# Altium schematic symbol library Capacitors MLCC.SchLib: 29 symbols
Pins are listed as number, name and electrical type; pins without a type are passive.

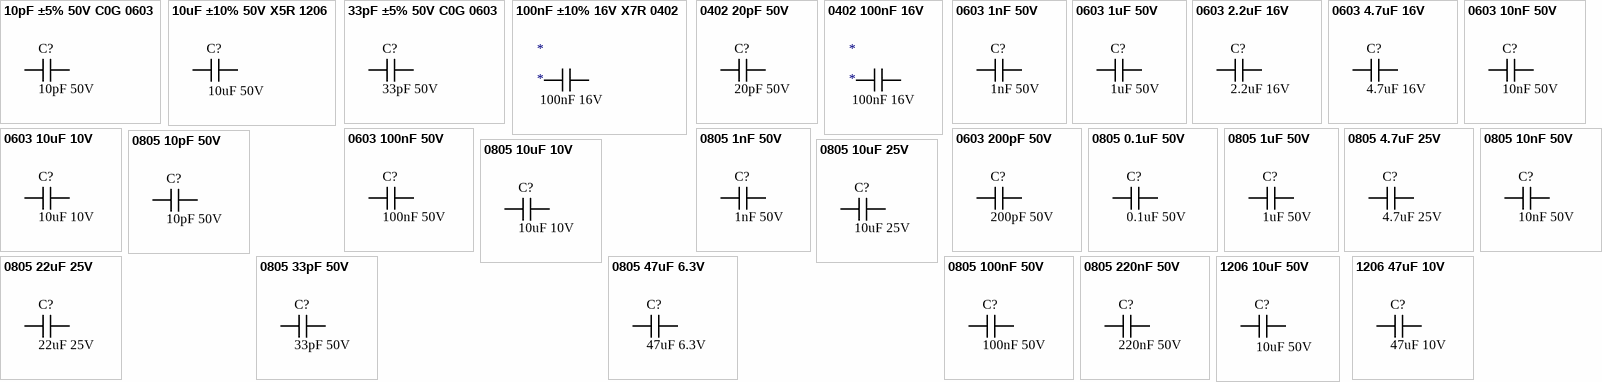
[diagram p0: symbols 10pF ±5% 50V C0G 0603 to 1206 47uF 10V]

## 10pF ±5% 50V C0G 0603
designator C?, comment value 10pF 50V  (hidden comment: Capacitor)
C0G ±5% 10pF 50V 0603 Multilayer Ceramic Capacitors MLCC - SMD/SMT ROHS; LCSC Part #: C1634
footprint CAP 0603_1608 (Chip Capacitor, 2-Leads, Body 1.60x0.80mm, IPC Medium Density)
pins: 1, 2

## 10uF ±10% 50V X5R 1206
designator C?, comment value 10uF 50V  (hidden comment: Capacitor)
10uF ±10% 50V X5R 1206 Multilayer Ceramic Capacitors MLCC - SMD/SMT ROHS; ComponentLink1Description: LCSC - Samsung Electro-Mechanics CL31A106KBHNNNE; ComponentLink1URL: https://lcsc.com/product-detail/Multilayer-Ceramic-Capacitors-MLCC-SMD-SMT_Samsung-Electro-Mechanics-CL31A106KBHNNNE_C13585.html; JLCPCB Part Type: Basic; LCSC Part #: C13585
footprint CAP 1206_3216 - 1.2MM (Chip Capacitor, 2-Leads, Body 3.25x1.60mm, IPC Medium Density)
pins: 1, 2

## 33pF ±5% 50V C0G 0603
designator C?, comment value 33pF 50V  (hidden comment: Capacitor)
C0G 33pF ±5% 50V 0603 Multilayer Ceramic Capacitors MLCC - SMD/SMT ROHS; LCSC Part #: C1663
footprint CAP 0603_1608 (Chip Capacitor, 2-Leads, Body 1.60x0.80mm, IPC Medium Density)
pins: 1, 2

## 100nF ±10% 16V X7R 0402
designator *  value 100nF 16V
100nF ±10% 16V X7R 0402 Multilayer Ceramic Capacitors MLCC - SMD/SMT RoHS; LCSC Part #: C1525
footprint CAP 0402_1005 (Chip Capacitor, 2-Leads, Body 1.02x0.51mm, IPC Medium Density)
pins: 1, 2

## 0402 20pF 50V
designator C?, comment value 20pF 50V  (hidden comment: Capacitor)
C0G 20pF ±5% 50V 0402 Multilayer Ceramic Capacitors MLCC - SMD/SMT ROHS; LCSC Part #: C1554
footprint CAP 0402_1005 RF (Chip Capacitor, 2-Leads, Body 1.02x0.51mm, IPC High Density)
pins: 1, 2

## 0402 100nF 16V
designator *  value 100nF 16V
100nF ±10% 16V X7R 0402 Multilayer Ceramic Capacitors MLCC - SMD/SMT RoHS; LCSC Part #: C1525
footprint CAP 0402_1005 (Chip Capacitor, 2-Leads, Body 1.02x0.51mm, IPC Medium Density)
pins: 1, 2

## 0603 1nF 50V
designator C?, comment value 1nF 50V  (hidden comment: Capacitor)
1nF ±10% 50V X7R 0603 Multilayer Ceramic Capacitors MLCC - SMD/SMT RoHS; LCSC Part #: C1588
footprint CAP 0603_1608 (Chip Capacitor, 2-Leads, Body 1.60x0.80mm, IPC Medium Density)
pins: 1, 2

## 0603 1uF 50V
designator C?, comment value 1uF 50V  (hidden comment: Capacitor)
1uF ±10% 50V X5R 0603 Multilayer Ceramic Capacitors MLCC - SMD/SMT RoHS; LCSC Part #: C15849
footprint CAP 0603_1608 (Chip Capacitor, 2-Leads, Body 1.60x0.80mm, IPC Medium Density)
pins: 1, 2

## 0603 2.2uF 16V
designator C?, comment value 2.2uF 16V  (hidden comment: Capacitor)
2.2uF ±10% 16V X5R 0603 Multilayer Ceramic Capacitors MLCC - SMD/SMT RoHS; LCSC Part #: C23630
footprint CAP 0603_1608 (Chip Capacitor, 2-Leads, Body 1.60x0.80mm, IPC Medium Density)
pins: 1, 2

## 0603 4.7uF 16V
designator C?, comment value 4.7uF 16V  (hidden comment: Capacitor)
4.7uF ±10% 16V X5R 0603 Multilayer Ceramic Capacitors MLCC - SMD/SMT RoHS; LCSC Part #: C19666
footprint CAP 0603_1608 (Chip Capacitor, 2-Leads, Body 1.60x0.80mm, IPC Medium Density)
pins: 1, 2

## 0603 10nF 50V
designator C?, comment value 10nF 50V  (hidden comment: Capacitor)
10nF ±10% 50V X7R 0603 Multilayer Ceramic Capacitors MLCC - SMD/SMT RoHS; LCSC Part #: C57112
footprint CAP 0603_1608 (Chip Capacitor, 2-Leads, Body 1.60x0.80mm, IPC Medium Density)
pins: 1, 2

## 0603 10uF 10V
designator C?, comment value 10uF 10V  (hidden comment: Capacitor)
10uF ±10% 10V X5R 0603 Multilayer Ceramic Capacitors MLCC - SMD/SMT RoHS; LCSC Part #: C19702; ComponentLink1Description: LCSC - Samsung Electro-Mechanics CL10A106KP8NNNC; ComponentLink1URL: https://lcsc.com/product-detail/Multilayer-Ceramic-Capacitors-MLCC-SMD-SMT_SAMSUNG_CL10A106KP8NNNC_10uF-106-10-10V_C19702.html/?href=jlc-SMT
footprint CAP 0603_1608 (Chip Capacitor, 2-Leads, Body 1.60x0.80mm, IPC Medium Density)
pins: 1, 2

## 0603 100nF 50V
designator C?, comment value 100nF 50V  (hidden comment: Capacitor)
100nF ±10% 50V X7R 0603 Multilayer Ceramic Capacitors MLCC - SMD/SMT RoHS; LCSC Part #: C14663
footprint CAP 0603_1608 (Chip Capacitor, 2-Leads, Body 1.60x0.80mm, IPC Medium Density)
pins: 1, 2

## 0603 200pF 50V
designator C?, comment value 200pF 50V  (hidden comment: Capacitor)
200pF 50V 0603 Multilayer Ceramic Capacitors MLCC - SMD/SMT RoHS; LCSC Part #: C1600
footprint CAP 0603_1608 (Chip Capacitor, 2-Leads, Body 1.60x0.80mm, IPC Medium Density)
pins: 1, 2

## 0805 0.1uF 50V
designator C?, comment value 0.1uF 50V  (hidden comment: Capacitor)
100nF ±10% 50V X7R 0805 Multilayer Ceramic Capacitors MLCC - SMD/SMT RoHS; LCSC Part #: C49678
footprint CAP 0805_2012 (Chip Capacitor, 2-Leads, Body 2.00x1.20mm, IPC Medium Density)
pins: 1, 2

## 0805 1nF 50V
designator C?, comment value 1nF 50V  (hidden comment: Capacitor)
1nF ±10% 50V X7R 0805 Multilayer Ceramic Capacitors MLCC - SMD/SMT RoHS; LCSC Part #: C46653
footprint CAP 0805_2012 (Chip Capacitor, 2-Leads, Body 2.00x1.20mm, IPC Medium Density)
pins: 1, 2

## 0805 1uF 50V
designator C?, comment value 1uF 50V  (hidden comment: Capacitor)
1uF ±10% 50V X7R 0805 Multilayer Ceramic Capacitors MLCC - SMD/SMT RoHS; LCSC Part #: C28323
footprint CAP 0805_2012 (Chip Capacitor, 2-Leads, Body 2.00x1.20mm, IPC Medium Density)
pins: 1, 2

## 0805 4.7uF 25V
designator C?, comment value 4.7uF 25V  (hidden comment: Capacitor)
4.7uF ±10% 25V X5R 0805 Multilayer Ceramic Capacitors MLCC - SMD/SMT RoHS; LCSC Part #: C1779
footprint CAP 0805_2012 (Chip Capacitor, 2-Leads, Body 2.00x1.20mm, IPC Medium Density)
pins: 1, 2

## 0805 10nF 50V
designator C?, comment value 10nF 50V  (hidden comment: Capacitor)
10nF 50V 0805 Multilayer Ceramic Capacitors MLCC - SMD/SMT RoHS; LCSC Part #: C1710
footprint CAP 0805_2012 (Chip Capacitor, 2-Leads, Body 2.00x1.20mm, IPC Medium Density)
pins: 1, 2

## 0805 10pF 50V
designator C?, comment value 10pF 50V  (hidden comment: Capacitor)
10pF ±5% 50V C0G 0805 Multilayer Ceramic Capacitors MLCC - SMD/SMT RoHS; LCSC Part #: C1785
footprint CAP 0805_2012 (Chip Capacitor, 2-Leads, Body 2.00x1.20mm, IPC Medium Density)
pins: 1, 2

## 0805 10uF 10V
designator C?, comment value 10uF 10V  (hidden comment: Capacitor)
10uF ±10% 10V X7R 0805 Multilayer Ceramic Capacitors MLCC - SMD/SMT RoHS; LCSC Part #: C117956; JLCPCB Part Type: Extended
footprint CAP 0805_2012 (Chip Capacitor, 2-Leads, Body 2.00x1.20mm, IPC Medium Density)
pins: 1, 2

## 0805 10uF 25V
designator C?, comment value 10uF 25V  (hidden comment: Capacitor)
10uF ±10% 25V X5R 0805 Multilayer Ceramic Capacitors MLCC - SMD/SMT RoHS; LCSC Part #: C15850
footprint CAP 0805_2012 (Chip Capacitor, 2-Leads, Body 2.00x1.20mm, IPC Medium Density)
pins: 1, 2

## 0805 22uF 25V
designator C?, comment value 22uF 25V  (hidden comment: Capacitor)
22uF ±20% 25V X5R 0805 Multilayer Ceramic Capacitors MLCC - SMD/SMT RoHS; LCSC Part #: C45783
footprint CAP 0805_2012 (Chip Capacitor, 2-Leads, Body 2.00x1.20mm, IPC Medium Density)
pins: 1, 2

## 0805 33pF 50V
designator C?, comment value 33pF 50V  (hidden comment: Capacitor)
33pF ±5% 50V C0G 0805 Multilayer Ceramic Capacitors MLCC - SMD/SMT RoHS; LCSC Part #: C1814
footprint CAP 0805_2012 (Chip Capacitor, 2-Leads, Body 2.00x1.20mm, IPC Medium Density)
pins: 1, 2

## 0805 47uF 6.3V
designator C?, comment value 47uF 6.3V  (hidden comment: Capacitor)
47uF ±20% 6.3V X5R 0805 Multilayer Ceramic Capacitors MLCC - SMD/SMT RoHS; LCSC Part #: C16780; JLCPCB Part Type: Extended; ComponentLink1Description: LCSC - Samsung Electro-Mechanics CL21A476MQYNNNE; ComponentLink1URL: https://lcsc.com/product-detail/Multilayer-Ceramic-Capacitors-MLCC-SMD-SMT_SAMSUNG_CL21A476MQYNNNE_47uF-476-20-6-3V_C16780.html/?href=jlc-SMT
footprint CAP 0805_2012 (Chip Capacitor, 2-Leads, Body 2.00x1.20mm, IPC Medium Density)
pins: 1, 2

## 0805 100nF 50V
designator C?, comment value 100nF 50V  (hidden comment: Capacitor)
100nF ±10% 50V X7R 0805 Multilayer Ceramic Capacitors MLCC - SMD/SMT RoHS; LCSC Part #: C49678
footprint CAP 0805_2012 (Chip Capacitor, 2-Leads, Body 2.00x1.20mm, IPC Medium Density)
pins: 1, 2

## 0805 220nF 50V
designator C?, comment value 220nF 50V  (hidden comment: Capacitor)
220nF ±10% 50V X7R 0805 Multilayer Ceramic Capacitors MLCC - SMD/SMT RoHS; LCSC Part #: C5378
footprint CAP 0805_2012 (Chip Capacitor, 2-Leads, Body 2.00x1.20mm, IPC Medium Density)
pins: 1, 2

## 1206 10uF 50V
designator C?, comment value 10uF 50V  (hidden comment: Capacitor)
10uF ±10% 50V X7R 1206 Multilayer Ceramic Capacitors MLCC - SMD/SMT RoHS; ComponentLink1Description: LCSC - Samsung Electro-Mechanics CL31B106KBHNNNE; ComponentLink1URL: https://lcsc.com/product-detail/Multilayer-Ceramic-Capacitors-MLCC-SMD-SMT_Samsung-Electro-Mechanics-CL31B106KBHNNNE_C89632.html; JLCPCB Part Type: Extended; LCSC Part #: C89632
footprint CAP 1206_3216 - 1.2MM (Chip Capacitor, 2-Leads, Body 3.25x1.60mm, IPC Medium Density)
pins: 1, 2

## 1206 47uF 10V
designator C?, comment value 47uF 10V  (hidden comment: Capacitor)
47uF ±20% 10V X5R 1206 Multilayer Ceramic Capacitors MLCC - SMD/SMT RoHS; LCSC Part #: C96123; ComponentLink1Description: LCSC - Samsung Electro-Mechanics CL31A476MPHNNNE; ComponentLink1URL: https://lcsc.com/product-detail/Multilayer-Ceramic-Capacitors-MLCC-SMD-SMT_SAMSUNG_CL31A476MPHNNNE_47uF-476-20-10V_C96123.html/?href=jlc-SMT; JLCPCB Part Type: Basic
footprint CAP 1206_3216 - 1.2MM (Chip Capacitor, 2-Leads, Body 3.25x1.60mm, IPC Medium Density)
pins: 1, 2